# EAGLE library part SIMSD_MOLEX (library (custom)-new-components)
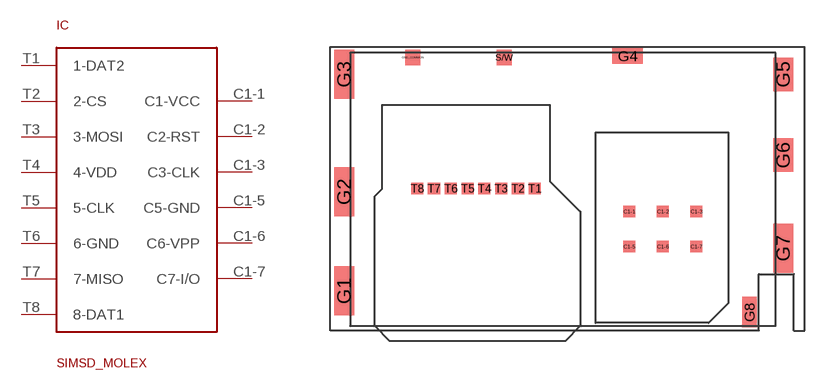
[diagram p15: symbol with the pads of SIMSD_2007660111; footprint SIMSD_2007660111]

Designator prefix IC

## SIMSD_MOLEX  [SIMSD_2007660111]
C1-1  C1-VCC
C1-2  C2-RST
C1-3  C3-CLK
C1-5  C5-GND
C1-6  C6-VPP
C1-7  C7-I/O
T1  1-DAT2
T2  2-CS
T3  3-MOSI
T4  4-VDD
T5  5-CLK
T6  6-GND
T7  7-MISO
T8  8-DAT1

## Footprint SIMSD_2007660111 (pad centres in mm)
smd 0.8 x 0.76: C1-1 4.2,-1; C1-2 6.4,-1; C1-3 8.6,-1; C1-5 4.2,-3.3; C1-6 6.4,-3.3; C1-7 8.6,-3.3; T1 -2,0.5; T2 -3.1,0.5; T3 -4.2,0.5; T4 -5.3,0.5; T5 -6.4,0.5; T6 -7.5,0.5; T7 -8.6,0.5; T8 -9.7,0.5
smd 1.3 x 3.2: G1 -14.5,-6.2; G2 -14.5,0.3; G3 -14.5,8; G7 14.3,-3.4
smd 2 x 1: G4 4.1,9.2
smd 1.3 x 2.2: G5 14.3,8; G6 14.3,2.7
smd 0.95 x 2: G8 12.1,-7.6
smd 1 x 1: GND_COMMON -10,9.1; S/W -4,9.1